# Altium footprint library WSON (DSC).PcbLib: 5 footprints
Each footprint in its own frame and in the unit in brackets; x right, y up, seen from the top. Pads: shape width x height; smd on the part's side, far side on the other; paste and mask are expansions set on the pad; w line width, h text height; cw(c..) or ccw(c..) is an arc to the next point about the centre after c.
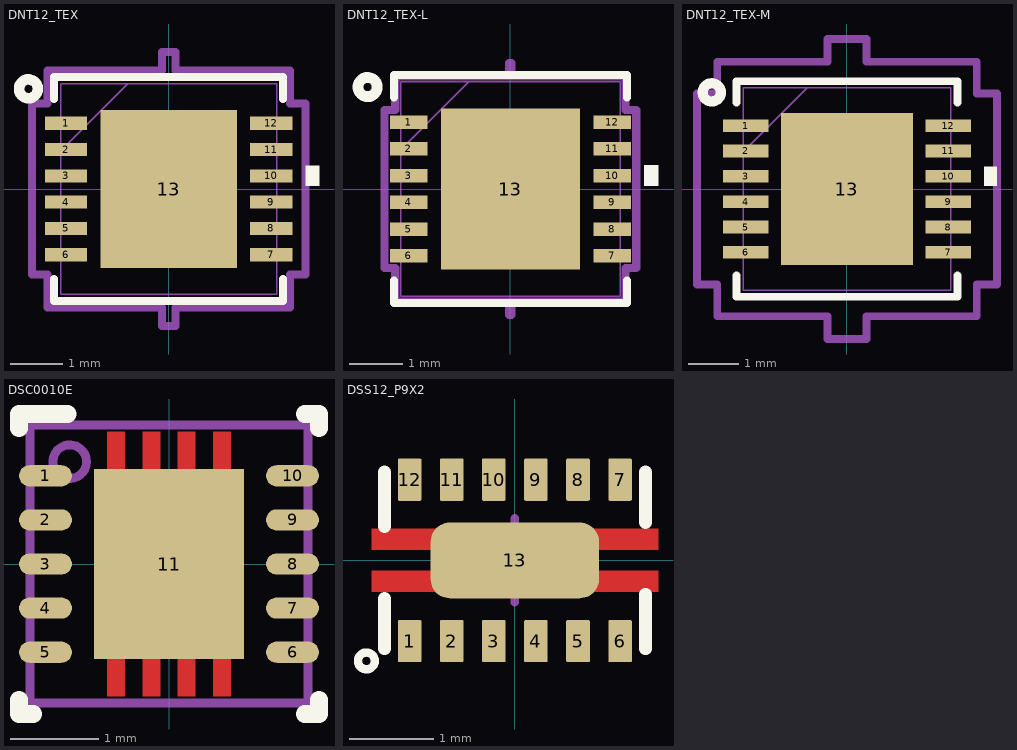
[diagram p0: the footprints below, top view; thin cyan lines are the x and y axes]

## DNT12_TEX [mm]
pads (13):
  rect 0.8x0.25 smd: 1(-1.95,1.25) 2(-1.95,0.75) 3(-1.95,0.25) 4(-1.95,-0.25) 5(-1.95,-0.75) 6(-1.95,-1.25) 7(1.95,-1.25) 8(1.95,-0.75) 9(1.95,-0.25) 10(1.95,0.25) 11(1.95,0.75) 12(1.95,1.25)
  rect 2.6x3 smd: 13(0,0)
Top Overlay:
  circle w0.2: c-2.667,1.905 r0.18
  region: 2.604,0.44 2.858,0.44 2.858,0.059 2.604,0.059
  lines w0.152: -2.177,-1.708 -2.177,-2.127 2.177,-2.127 2.177,-1.708 ; -2.177,1.708 -2.177,2.127 2.177,2.127 2.177,1.708
Top Paste:
  drawing of 16 lines, arcs and shapes, not listed
Top Solder:
  region: 0.987,-1.563 0.987,1.563 1.363,1.563 1.363,-1.563
  region: 0.587,-1.563 0.587,1.563 0.2,1.563 0.2,-1.563
  region: -0.2,-1.563 -0.2,1.563 -0.587,1.563 -0.587,-1.563
  region: -1.363,-1.563 -1.363,1.563 -0.987,1.563 -0.987,-1.563
  region: -1.363,-1.563 -1.363,-0.987 1.363,-0.987 1.363,-1.563
  region: -1.363,-0.587 -1.363,-0.2 1.363,-0.2 1.363,-0.587
  region: -1.363,0.2 -1.363,0.587 1.363,0.587 1.363,0.2
  region: -1.363,0.987 -1.363,1.563 1.363,1.563 1.363,0.987
Mechanical 13:
  lines w0.025: -2.05,0.73 -0.78,2 ; -2.05,-2 -2.05,2 2.05,2 2.05,-2 -2.05,-2 ; -2.05,-1.4 -2.05,-1.1 -2.05,-1.4 ; -2.05,-0.9 -2.05,-0.6 -2.05,-0.9 ; -2.05,-0.4 -2.05,-0.1 -2.05,-0.4 ; -2.05,0.1 -2.05,0.4 -2.05,0.1 ; -2.05,0.6 -2.05,0.9 -2.05,0.6 ; -2.05,1.1 -2.05,1.4 -2.05,1.1 ; 2.05,-1.4 2.05,-1.1 2.05,-1.4 ; 2.05,-0.9 2.05,-0.6 2.05,-0.9 ; 2.05,-0.4 2.05,-0.1 2.05,-0.4 ; 2.05,0.1 2.05,0.4 2.05,0.1 ; 2.05,0.6 2.05,0.9 2.05,0.6 ; 2.05,1.1 2.05,1.4 2.05,1.1
Mechanical 15:
  circle w0.1: c0,0 r0.5
  lines w0.1: -1,0 0,0 ; 0,-1 0,0 ; 0,1 0,0 ; 1,0 0,0
  lines w0.152: -2.604,-1.629 -2.604,1.629 -2.304,1.629 -2.304,2.254 -0.129,2.254 -0.129,2.604 0.129,2.604 0.129,2.254 2.304,2.254 2.304,1.629 2.604,1.629 2.604,-1.629 2.304,-1.629 2.304,-2.254 0.129,-2.254 0.129,-2.604 -0.129,-2.604 -0.129,-2.254 -2.304,-2.254 -2.304,-1.629 -2.604,-1.629
3D body "DNT0012B.stp": height 0.97, standoff 0, extent -2,-2 2,2

## DNT12_TEX-L [mm]
pads (13):
  rect 0.7x0.25 smd: 1(-1.9,1.25) 2(-1.9,0.75) 3(-1.9,0.25) 4(-1.9,-0.25) 5(-1.9,-0.75) 6(-1.9,-1.25) 7(1.9,-1.25) 8(1.9,-0.75) 9(1.9,-0.25) 10(1.9,0.25) 11(1.9,0.75) 12(1.9,1.25)
  rect 2.6x3 smd: 13(0,0)
Top Overlay:
  circle w0.2: c-2.667,1.905 r0.18
  region: 2.504,0.44 2.758,0.44 2.758,0.059 2.504,0.059
  lines w0.152: -2.177,-1.708 -2.177,-2.127 2.177,-2.127 2.177,-1.708 ; -2.177,1.708 -2.177,2.127 2.177,2.127 2.177,1.708
Top Paste:
  drawing of 16 lines, arcs and shapes, not listed
Top Solder:
  region: -1.363,0.987 -1.363,1.563 1.363,1.563 1.363,0.987
  region: -1.363,0.2 -1.363,0.587 1.363,0.587 1.363,0.2
  region: -1.363,-0.587 -1.363,-0.2 1.363,-0.2 1.363,-0.587
  region: -1.363,-1.563 -1.363,-0.987 1.363,-0.987 1.363,-1.563
  region: -1.363,-1.563 -1.363,1.563 -0.987,1.563 -0.987,-1.563
  region: -0.2,-1.563 -0.2,1.563 -0.587,1.563 -0.587,-1.563
  region: 0.587,-1.563 0.587,1.563 0.2,1.563 0.2,-1.563
  region: 0.987,-1.563 0.987,1.563 1.363,1.563 1.363,-1.563
Mechanical 13:
  lines w0.025: -2.05,0.73 -0.78,2 ; -2.05,-2 2.05,-2 2.05,2 -2.05,2 -2.05,-2 ; -2.05,-1.4 -2.05,-1.1 -2.05,-1.4 ; -2.05,-0.9 -2.05,-0.6 -2.05,-0.9 ; -2.05,-0.4 -2.05,-0.1 -2.05,-0.4 ; -2.05,0.1 -2.05,0.4 -2.05,0.1 ; -2.05,0.6 -2.05,0.9 -2.05,0.6 ; -2.05,1.1 -2.05,1.4 -2.05,1.1 ; 2.05,-1.4 2.05,-1.1 2.05,-1.4 ; 2.05,-0.9 2.05,-0.6 2.05,-0.9 ; 2.05,-0.4 2.05,-0.1 2.05,-0.4 ; 2.05,0.1 2.05,0.4 2.05,0.1 ; 2.05,0.6 2.05,0.9 2.05,0.6 ; 2.05,1.1 2.05,1.4 2.05,1.1
Mechanical 15:
  circle w0.1: c0,0 r0.5
  lines w0.1: -1,0 0,0 ; 0,-1 0,0 ; 0,1 0,0 ; 1,0 0,0
  lines w0.152: -2.352,-1.477 -2.152,-1.477 -2.152,-2.102 0.023,-2.102 0.023,-2.352 -0.023,-2.352 -0.023,-2.102 2.152,-2.102 2.152,-1.477 2.352,-1.477 2.352,1.477 2.152,1.477 2.152,2.102 -0.023,2.102 -0.023,2.352 0.023,2.352 0.023,2.102 -2.152,2.102 -2.152,1.477 -2.352,1.477 -2.352,-1.477
3D body "DNT0012B.stp": height 0.97, standoff 0, extent -2,-2 2,2

## DNT12_TEX-M [mm]
pads (13):
  rect 0.9x0.25 smd paste+0 mask+0: 1(-2,1.25) 2(-2,0.75) 3(-2,0.25) 4(-2,-0.25) 5(-2,-0.75) 6(-2,-1.25) 7(2,-1.25) 8(2,-0.75) 9(2,-0.25) 10(2,0.25) 11(2,0.75) 12(2,1.25)
  rect 2.6x3 smd paste-1.487 mask-1.486: 13(0,0)
Top Overlay:
  circle w0.2: c-2.667,1.905 r0.18
  region: 2.704,0.44 2.958,0.44 2.958,0.059 2.704,0.059
  lines w0.152: -2.177,-1.708 -2.177,-2.127 2.177,-2.127 2.177,-1.708 ; -2.177,1.708 -2.177,2.127 2.177,2.127 2.177,1.708
Top Paste:
  drawing of 16 lines, arcs and shapes, not listed
Top Solder:
  region: -1.363,0.987 -1.363,1.563 1.363,1.563 1.363,0.987
  region: -1.363,0.2 -1.363,0.587 1.363,0.587 1.363,0.2
  region: -1.363,-0.587 -1.363,-0.2 1.363,-0.2 1.363,-0.587
  region: -1.363,-1.563 -1.363,-0.987 1.363,-0.987 1.363,-1.563
  region: -1.363,-1.563 -1.363,1.563 -0.987,1.563 -0.987,-1.563
  region: -0.2,-1.563 -0.2,1.563 -0.587,1.563 -0.587,-1.563
  region: 0.587,-1.563 0.587,1.563 0.2,1.563 0.2,-1.563
  region: 0.987,-1.563 0.987,1.563 1.363,1.563 1.363,-1.563
Mechanical 13:
  lines w0.025: -2.05,0.73 -0.78,2 ; -2.05,-2 2.05,-2 2.05,2 -2.05,2 -2.05,-2 ; -2.05,-1.4 -2.05,-1.1 -2.05,-1.4 ; -2.05,-0.9 -2.05,-0.6 -2.05,-0.9 ; -2.05,-0.4 -2.05,-0.1 -2.05,-0.4 ; -2.05,0.1 -2.05,0.4 -2.05,0.1 ; -2.05,0.6 -2.05,0.9 -2.05,0.6 ; -2.05,1.1 -2.05,1.4 -2.05,1.1 ; 2.05,-1.4 2.05,-1.1 2.05,-1.4 ; 2.05,-0.9 2.05,-0.6 2.05,-0.9 ; 2.05,-0.4 2.05,-0.1 2.05,-0.4 ; 2.05,0.1 2.05,0.4 2.05,0.1 ; 2.05,0.6 2.05,0.9 2.05,0.6 ; 2.05,1.1 2.05,1.4 2.05,1.1
Mechanical 15:
  circle w0.1: c0,0 r0.5
  lines w0.1: -1,0 0,0 ; 0,-1 0,0 ; 0,1 0,0 ; 1,0 0,0
  lines w0.152: -2.958,-1.883 -2.558,-1.883 -2.558,-2.508 -0.383,-2.508 -0.383,-2.958 0.383,-2.958 0.383,-2.508 2.558,-2.508 2.558,-1.883 2.958,-1.883 2.958,1.883 2.558,1.883 2.558,2.508 0.383,2.508 0.383,2.958 -0.383,2.958 -0.383,2.508 -2.558,2.508 -2.558,1.883 -2.958,1.883 -2.958,-1.883
3D body "DNT0012B.stp": height 0.97, standoff 0, extent -2,-2 2,2

## DSC0010E [mm]
pads (11):
  oval 0.6x0.24 smd paste+0 mask+0.051: 1(-1.4,1) 2(-1.4,0.5) 3(-1.4,0) 4(-1.4,-0.5) 5(-1.4,-1) 6(1.4,-1) 7(1.4,-0.5) 8(1.4,0) 9(1.4,0.5) 10(1.4,1)
  rect 1.7x2.15 smd paste-1.062 mask+0.051: 11(0,0)
Top Layer:
  region: -0.7,1.5 -0.7,1.06 -0.5,1.06 -0.5,1.5
  region: -0.3,1.5 -0.3,1.06 -0.1,1.06 -0.1,1.5
  region: 0.3,1.06 0.3,1.5 0.1,1.5 0.1,1.06
  region: 0.7,1.06 0.7,1.5 0.5,1.5 0.5,1.06
  region: 0.7,-1.5 0.7,-1.06 0.5,-1.06 0.5,-1.5
  region: 0.3,-1.5 0.3,-1.06 0.1,-1.06 0.1,-1.5
  region: -0.3,-1.06 -0.3,-1.5 -0.1,-1.5 -0.1,-1.06
  region: -0.7,-1.06 -0.7,-1.5 -0.5,-1.5 -0.5,-1.06
Top Overlay:
  lines w0.2: -1.7,-1.54 -1.7,-1.7 -1.54,-1.7 ; -1.7,1.54 -1.7,1.7 -1.15,1.7 ; 1.54,-1.7 1.7,-1.7 1.7,-1.54 ; 1.54,1.7 1.7,1.7 1.7,1.54
Top Paste:
  region: -0.775,0.1 0.775,0.1 0.775,1.075 -0.775,1.075
  region: 0.775,-0.1 -0.775,-0.1 -0.775,-1.075 0.775,-1.075
Top Solder:
  region: -0.751,1.551 -0.751,1.009 -0.449,1.009 -0.449,1.551
  region: -0.351,1.551 -0.351,1.009 -0.049,1.009 -0.049,1.551
  region: 0.351,1.009 0.351,1.551 0.049,1.551 0.049,1.009
  region: 0.751,1.009 0.751,1.551 0.449,1.551 0.449,1.009
  region: 0.751,-1.551 0.751,-1.009 0.449,-1.009 0.449,-1.551
  region: 0.351,-1.551 0.351,-1.009 0.049,-1.009 0.049,-1.551
  region: -0.351,-1.009 -0.351,-1.551 -0.049,-1.551 -0.049,-1.009
  region: -0.751,-1.009 -0.751,-1.551 -0.449,-1.551 -0.449,-1.009
Mechanical 13:
  circle w0.1: c-1.125,1.16 r0.19
  lines w0.1: 1.575,-1.575 1.575,1.575 -1.575,1.575 -1.575,-1.575 1.55,-1.575 1.575,-1.55
Mechanical 15:
  circle w0.05: c0,0 r0.35
  lines w0.05: -0.5,0 0.5,0 ; 0,-0.5 0,0.5
3D body "User Library-10WSON.STEP": height 0.7, standoff 0.01, extent -1.505,-1.501 1.505,1.499

## DSS12_P9X2 [mm]
pads (13):
  rrect10% 0.28x0.5 smd: 1(-1.25,-0.959) 2(-0.75,-0.959) 3(-0.25,-0.959) 4(0.25,-0.959) 5(0.75,-0.959) 6(1.25,-0.959) 7(1.25,0.959) 8(0.75,0.959) 9(0.25,0.959) 10(-0.25,0.959) 11(-0.75,0.959) 12(-1.25,0.959)
  rrect50% 2x0.9 smd: 13(0,0)
Top Layer:
  region: -0.889,0.375 -0.889,0.125 -1.7,0.125 -1.7,0.375
  region: -0.889,-0.375 -0.889,-0.125 -1.7,-0.125 -1.7,-0.375
  region: 0.889,-0.375 0.889,-0.125 1.7,-0.125 1.7,-0.375
  region: 0.889,0.375 0.889,0.125 1.7,0.125 1.7,0.375
  region: 0.152,-1.279
  region: 0.152,0.721
Top Overlay:
  circle w0.1: c-1.763,-1.194 r0.1
  lines w0.152: -1.55,-1.05 -1.55,-0.451 ; -1.55,0.402 -1.55,1.05 ; 1.55,-1.05 1.55,-0.402 ; 1.55,0.451 1.55,1.05
Top Paste:
  region: 0.152,-1.279
  region: 0.152,0.721
Top Solder:
  region: 0.152,-1.279
  region: 0.152,0.721
Mechanical 15:
  circle w0.1: c0,0 r0.2
  lines w0.1: -0.5,0 0,0 ; 0,-0.5 0,0 ; 0,0.5 0,0 ; 0.5,0 0,0
3D body "DSS0012A.stp": height 0.8, standoff 0, extent -1.5,-1 1.5,1